# EAGLE library part ICM-20948 (library ICM-20948)
IMUs - Inertial Measurement Units World's Lowest Power 9-Axis MEMS MotionTracking Device Source: Datasheet <https://product.tdk.com/system/files/dam/doc/product/sensor/mortion-inertial/imu/data_sheet/ds-000189-icm-20948-v1.3.pdf>
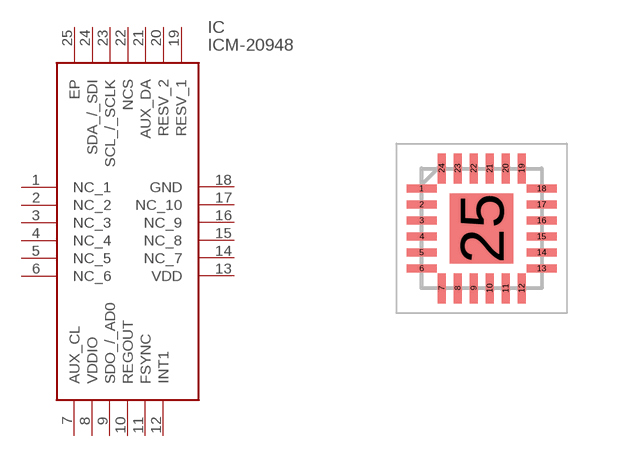
[diagram p0: symbol with the pads of QFN40P300X300X105-25N; footprint QFN40P300X300X105-25N]

Designator prefix IC

## ICM-20948 (Description: IMUs - Inertial Measurement Units World's Lowest Power 9-Axis MEMS MotionTracking Device; Height: 1.05mm; Manufacturer_Name: TDK; Manufacturer_Part_Number: ICM-20948; Mouser_Part_Number: 410-ICM-20948; Mouser_Price-Stock: https://www.mouser.co.uk/ProductDetail/TDK-InvenSense/ICM-20948?qs=u4fy%2FsgLU9OtGc31yF%2Friw%3D%3D)  [QFN40P300X300X105-25N]
1  NC_1
2  NC_2
3  NC_3
4  NC_4
5  NC_5
6  NC_6
7  AUX_CL
8  VDDIO
9  SDO_/_AD0
10  REGOUT
11  FSYNC
12  INT1
13  VDD
14  NC_7
15  NC_8
16  NC_9
17  NC_10
18  GND
19  RESV_1
20  RESV_2
21  AUX_DA
22  NCS
23  SCL_/_SCLK
24  SDA_/_SDI
25  EP

## Footprint QFN40P300X300X105-25N (pad centres in mm)
24 Lead QFN 3.0x3.0x0.9
smd 0.75 x 0.2: 1 -1.5,1; 2 -1.5,0.6; 3 -1.5,0.2; 4 -1.5,-0.2; 5 -1.5,-0.6; 6 -1.5,-1; 13 1.5,-1; 14 1.5,-0.6; 15 1.5,-0.2; 16 1.5,0.2; 17 1.5,0.6; 18 1.5,1
smd 0.2 x 0.75: 7 -1,-1.5; 8 -0.6,-1.5; 9 -0.2,-1.5; 10 0.2,-1.5; 11 0.6,-1.5; 12 1,-1.5; 19 1,1.5; 20 0.6,1.5; 21 0.2,1.5; 22 -0.2,1.5; 23 -0.6,1.5; 24 -1,1.5
smd 1.59 x 1.75: 25 0,0